# Altium integrated library WE-PD_1210.IntLib: 1 symbol
Pins are listed as number, name and electrical type; pins without a type are passive.

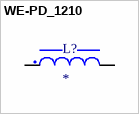
[diagram p0: symbol WE-PD_1210]

## WE-PD_1210
designator L?
MF: {'manufacturer': u'W\xfcrth Elektronik'}; MP: 7447709330; Package: None; Price: None; Value: *; Availability: Unavailable
footprint WE-PD_1210
pins: 1, 2